# Altium footprint library HF_Transformer_24v.PcbLib: 1 footprints
Each footprint in its own frame and in the unit in brackets; x right, y up, seen from the top. Pads: shape width x height; smd on the part's side, far side on the other; paste and mask are expansions set on the pad; w line width, h text height; cw(c..) or ccw(c..) is an arc to the next point about the centre after c.
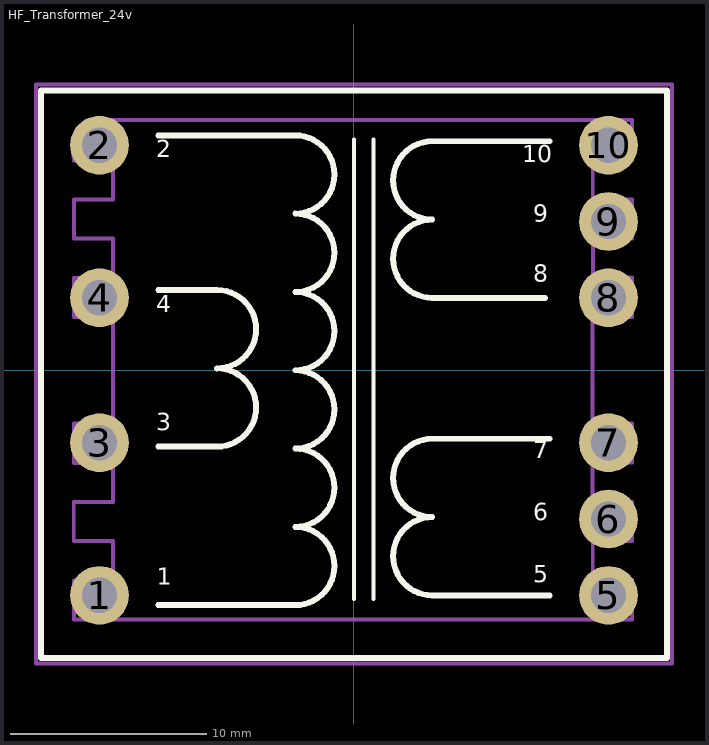
[diagram p0: the footprint, top view; thin cyan lines are the x and y axes]

## HF_Transformer_24v [mm] "HF_Transformer_24v"
pads (10):
  round 3 hole 1.8 paste-3 mask+0: 1(-13,-11.5) 2(-13,11.5) 3(-13,-3.7) 4(-13,3.7) 5(13,-11.5) 6(13,-7.6) 7(13,-3.7) 8(13,3.7) 9(13,7.6) 10(13,11.5)
Top Overlay:
  lines w0.2: 0,-11.7 0,11.8 ; 1,-11.7 1,11.8
  lines w0.3: -10,-12 -3,-12 ccw(c-3,-10) -3,-8 ccw(c-3,-6) -3,-4 ccw(c-3,-2) -3,0 ccw(c-3,2) -3,4 ccw(c-3,6) -3,8 ccw(c-3,10) -3,12 -10,12 ; -10,-3.9 -7,-3.9 ccw(c-7,-1.9) -7,0.1 ccw(c-7,2.1) -7,4.1 -10,4.1 ; 9.75,3.7 4,3.7 cw(c4,5.7) 4,7.7 cw(c4,9.7) 4,11.7 10,11.7 ; 10,-11.5 4,-11.5 cw(c4,-9.5) 4,-7.5 cw(c4,-5.5) 4,-3.5 10,-3.5 ; -16,-14.7 -16,14.3 16,14.3 16,-14.7 -16,-14.7
  text "9" at 9.16,7.274 h1.5
  text "7" at 9.17,-4.791 h1.5
  text "6" at 9.16,-7.969 h1.5
  text "5" at 9.157,-11.133 h1.5
  text "8" at 9.168,4.226 h1.5
  text "10" at 8.591,10.322 h1.5
  text "2" at -10.102,10.567 h1.5
  text "4" at -10.109,2.655 h1.5
  text "3" at -10.101,-3.362 h1.5
  text "1" at -10.066,-11.277 h1.5
Bottom Solder:
  lines w0.127: -12.028,-11.457 ccw(c-13,-11.5) -12.027,-11.5
Mechanical 1:
  circle w0.2: c-13.086,3.713 r0.8
  lines w0.2: -12.316,-8.73 -14.316,-8.73 -14.316,-6.73 -12.316,-6.73 -12.316,-4.73 -14.316,-4.73 -14.316,-2.73 -12.316,-2.73 ; -12.313,-8.73 -12.313,-10.73 -14.313,-10.73 -14.313,-12.73 12.198,-12.73 ; -12.313,6.725 -14.313,6.725 -14.313,8.725 -12.313,8.725 -12.313,10.725 -14.313,10.725 -14.377,11.571 -13.15,12.797 -12.29,12.797 14.198,12.797 ; -12.31,-2.724 -12.31,2.725 -14.31,2.725 -14.31,4.725 -12.31,4.725 -12.31,6.725 ; 12.195,-6.723 12.195,-4.723 14.195,-4.723 14.195,-2.723 12.195,-2.723 12.195,2.726 ; 12.198,-12.723 14.198,-12.723 14.198,-10.723 12.198,-10.723 12.198,-8.723 14.198,-8.723 14.198,-6.723 12.198,-6.723 ; 12.198,8.732 12.198,10.732 14.198,10.732 14.198,12.732 ; 12.2,2.732 14.2,2.732 14.2,4.732 12.2,4.732 12.2,6.732 14.2,6.732 14.2,8.732 12.2,8.732
  lines w0.203: -16.256,-14.986 16.256,-14.986 16.256,14.605 -16.256,14.605 -16.256,-14.986
  text ".Designator" at 0,0.565 h3
Mechanical 15:
  text "+" at -1.666,-2.499 h5
3D body: height 25.5, standoff 0, extent -6.016,13.885 5.984,14.185
3D body: height 3, standoff -3, extent -13.676,10.988 -12.476,12.188
3D body: height 3, standoff -3, extent 12.382,10.919 13.582,12.119
3D body: height 25, standoff 0, extent -6,8.995 6,13.995
3D body: height 3, standoff -3, extent 12.382,7.067 13.582,8.267
3D body: height 25, standoff 20, extent -7.512,5.79 -6.012,6.79
3D body: height 25, standoff 20, extent 6,5.75 7.5,6.75
3D body: height 21, standoff 20.2, extent -7.512,2.79 -6.012,6.79
3D body: height 21, standoff 20.2, extent 6,2.75 7.5,6.75
3D body: height 3, standoff -3, extent 12.382,3.233 13.582,4.433
3D body: height 3, standoff -3, extent -13.676,3.119 -12.476,4.319
3D body: height 0.5, standoff -0.1, extent -0.657,0.479 0.657,1.225
3D body: height 0.5, standoff -0.1, extent -1.136,-1.136 1.136,1.266
3D body: height 20.2, standoff 20, extent -8,-8.5 8,8.5
3D body: height 20, standoff 6, extent -8,-8.5 8,8.5
3D body: height 25.5, standoff 25, extent -6,-14 6,14
3D body: height 25, standoff 0, extent -6,-14 6,14
3D body: height 0.5, standoff -0.1, extent -0.657,-1.266 0.657,0.268
3D body: height 3, standoff -3, extent 12.382,-4.222 13.582,-3.022
3D body: height 3, standoff -3, extent -13.676,-4.287 -12.476,-3.087
3D body: height 21, standoff 20.2, extent 6,-6.75 7.5,-2.75
3D body: height 21, standoff 20.2, extent -7.5,-6.75 -6,-2.75
3D body: height 25, standoff 20, extent 6,-6.75 7.5,-5.75
3D body: height 25, standoff 20, extent -7.5,-6.75 -6,-5.75
3D body: height 3, standoff -3, extent 12.382,-8.133 13.582,-6.933
3D body: height 3, standoff -3, extent 12.382,-11.998 13.582,-10.798
3D body: height 3, standoff -3, extent -13.676,-12.077 -12.476,-10.877
3D body: height 25, standoff 0, extent -6,-14 6,-9
3D body: height 25.5, standoff 0, extent -6.002,-14.193 5.998,-13.893
3D body: height 6, standoff 3, extent -14.289,-12.763 14.289,12.763